# Altium footprint library diode.PCBLIB: 206 footprints (part 2 of 13)
Each footprint in its own frame and in the unit in brackets; x right, y up, seen from the top. Pads: shape width x height; smd on the part's side, far side on the other; paste and mask are expansions set on the pad; w line width, h text height; cw(c..) or ccw(c..) is an arc to the next point about the centre after c.
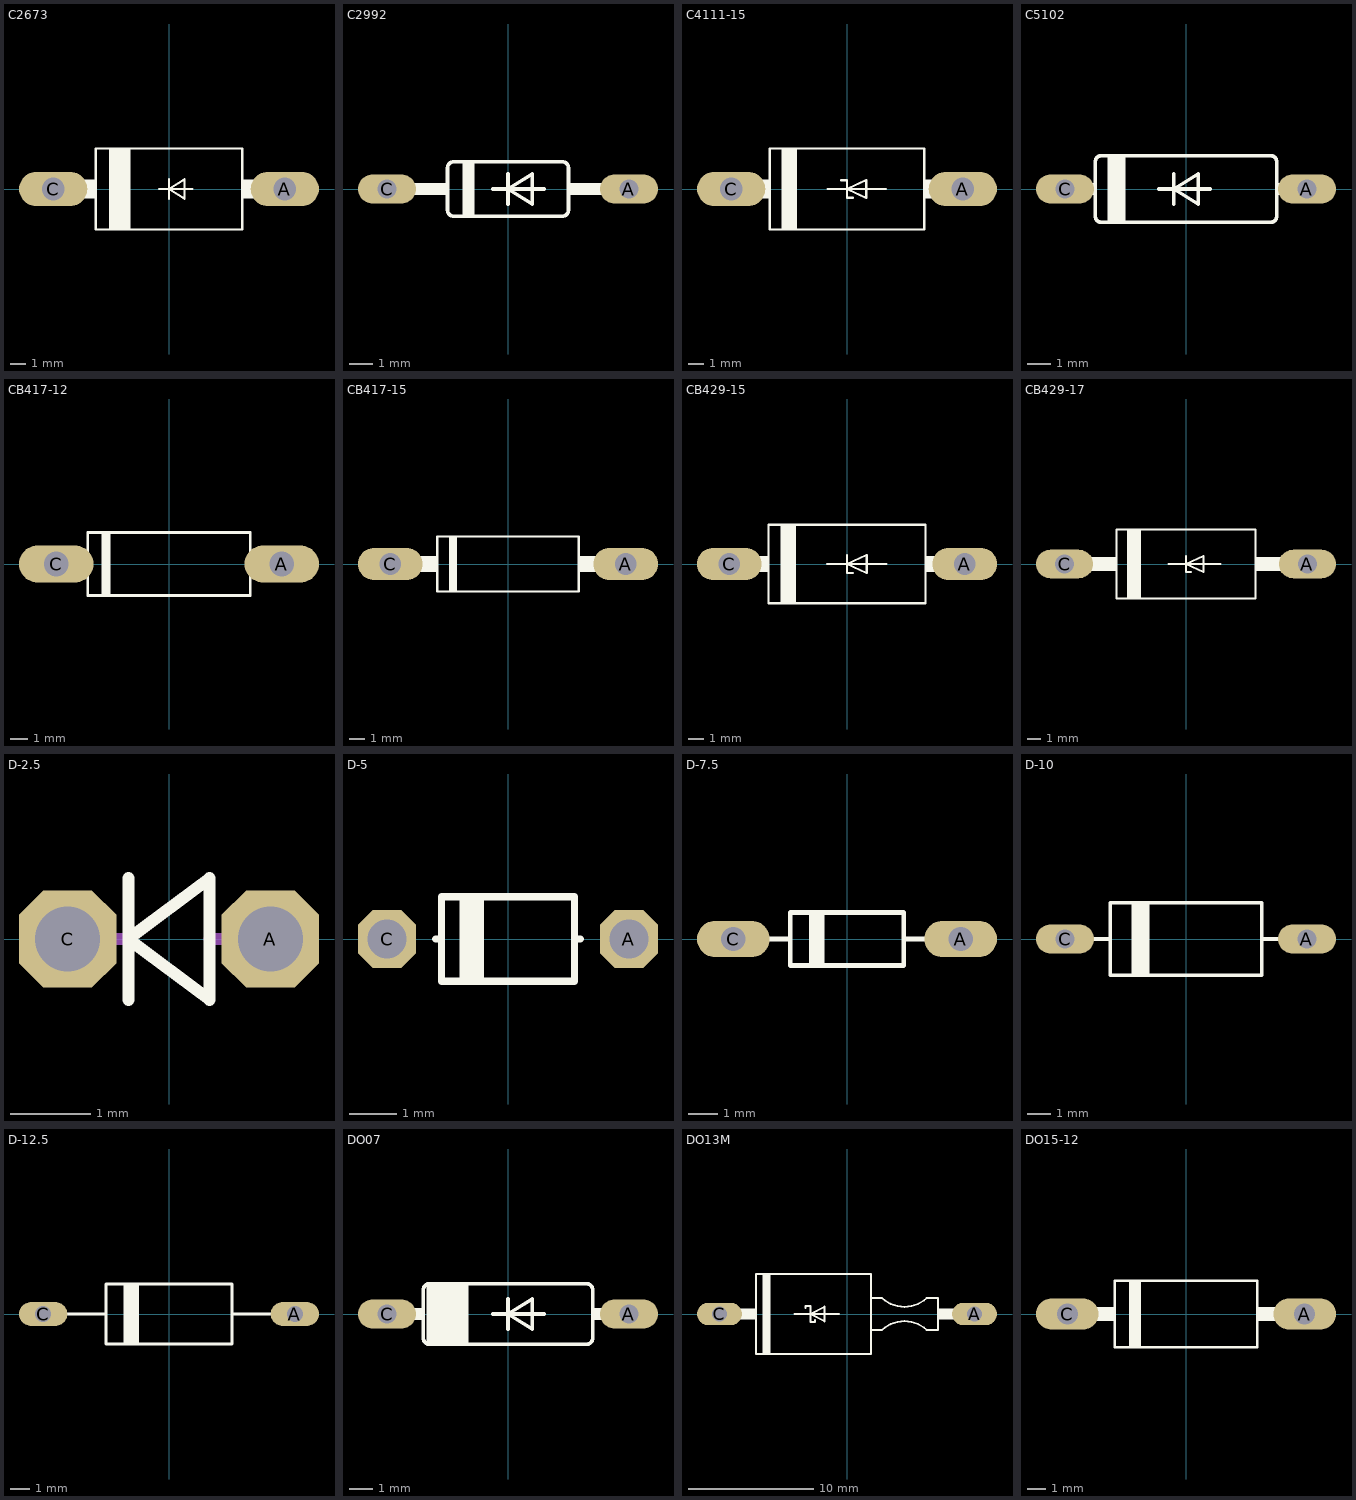
[diagram p1: the footprints below, top view; thin cyan lines are the x and y axes]

## C2673 [mil]
pads (2):
  oval 177x88.5 hole 59: A(300,0) C(-300,0)
Top Overlay:
  rectangle: -155,-105 -100,105
  rectangle: 190,-25 235,25
  rectangle: -235,-25 -190,25
  lines w6: -25,0 0,0 ; 0,-25 0,0 ; 0,25 0,0 ; 60,0 0,0 ; 0,0 40,-25 40,25 0,0 ; -190,-105 190,-105 190,105 -190,105 -190,-105
Mechanical 2:
  text ">NAME" at -185,120 h77.5
Mechanical 4:
  text ">VALUE" at -85,-85 h77.5
Mechanical 16:
  lines w50: -300,0 -240,0 ; 240,0 300,0

## C2992 [mil]
pads (2):
  oval 96x48 hole 32: A(200,0) C(-200,0)
Top Overlay:
  rectangle: 100,-10 165,10
  rectangle: -75,-45 -55,45
  rectangle: -165,-10 -100,10
  lines w6: -25,0 0,0 ; 0,-25 0,0 ; 0,25 0,0 ; 60,0 0,0 ; 0,0 40,-25 40,25 0,0 ; -100,-35 ccw(c-90,-35) -90,-45 90,-45 ccw(c90,-35) 100,-35 100,35 ccw(c90,35) 90,45 -90,45 ccw(c-90,35) -100,35 -100,-35
Mechanical 2:
  text ">NAME" at -95,60 h77.5
Mechanical 4:
  text ">VALUE" at -95,-105 h77.5
Mechanical 16:
  lines w20: -200,0 -165,0 ; 165,0 200,0

## C4111-15 [mil]
pads (2):
  oval 177x88.5 hole 59: A(300,0) C(-300,0)
Top Overlay:
  rectangle: -235,-25 -200,25
  rectangle: 200,-25 235,25
  rectangle: -170,-105 -130,105
  lines w6: -50,0 0,0 ; -15,23 0,23 0,0 ; 15,-23 0,-23 0,0 ; 100,0 0,0 ; 0,0 50,23 50,-23 0,0 ; -200,-105 -200,105 200,105 200,-105 -200,-105
Mechanical 2:
  text ">NAME" at -200,115 h77.5
Mechanical 4:
  text ">VALUE" at -100,-85 h77.5
Mechanical 16:
  lines w50: -300,0 -245,0 ; 245,0 300,0

## C5102 [mil]
pads (2):
  oval 96x48 hole 32: A(200,0) C(-200,0)
Top Overlay:
  rectangle: 150,-10 165,10
  rectangle: -165,-10 -150,10
  rectangle: -130,-55 -100,55
  lines w6: -45,0 -20,0 ; -20,-25 -20,0 ; -20,25 -20,0 ; 40,0 -20,0 ; -20,0 20,-25 20,25 -20,0 ; -150,-45 ccw(c-140,-45) -140,-55 140,-55 ccw(c140,-45) 150,-45 150,45 ccw(c140,45) 140,55 -140,55 ccw(c-140,45) -150,45 -150,-45
Mechanical 2:
  text ">NAME" at -145,70 h77.5
Mechanical 4:
  text ">VALUE" at -145,-115 h77.5
Mechanical 16:
  lines w20: -200,0 -165,0 ; 165,0 200,0

## CB417-12 [mil]
pads (2):
  oval 165x82.5 hole 55: A(250,0) C(-250,0)
Top Overlay:
  rectangle: -150,-70 -130,70
  rectangle: 180,-21 195,21
  rectangle: -195,-21 -180,21
  lines w6: -180,-70 -180,70 180,70 180,-70 -180,-70
Mechanical 2:
  text ">NAME" at -180,85 h77.5
Mechanical 4:
  text ">VALUE" at -110,-55 h77.5
Mechanical 16:
  lines w44: -250,0 -200,0 ; 200,0 250,0

## CB417-15 [mil]
pads (2):
  oval 165x82.5 hole 55: A(300,0) C(-300,0)
Top Overlay:
  rectangle: -150,-70 -130,70
  rectangle: 180,-21 245,21
  rectangle: -245,-21 -180,21
  lines w6: -180,-70 -180,70 180,70 180,-70 -180,-70
Mechanical 2:
  text ">NAME" at -180,85 h77.5
Mechanical 4:
  text ">VALUE" at -110,-55 h77.5
Mechanical 16:
  lines w44: -300,0 -250,0 ; 250,0 300,0

## CB429-15 [mil]
pads (2):
  oval 165x82.5 hole 55: A(300,0) C(-300,0)
Top Overlay:
  rectangle: -170,-100 -130,100
  rectangle: -235,-20 -200,20
  rectangle: 200,-20 235,20
  lines w6: -50,0 0,0 ; 0,23 0,0 ; 15,-23 0,-23 0,0 ; 100,0 0,0 ; 0,0 50,23 50,-23 0,0 ; -200,-100 -200,100 200,100 200,-100 -200,-100
Mechanical 2:
  text ">NAME" at -200,115 h77.5
Mechanical 4:
  text ">VALUE" at -100,-85 h77.5
Mechanical 16:
  lines w40: -300,0 -240,0 ; 240,0 300,0

## CB429-17 [mil]
pads (2):
  oval 165x82.5 hole 55: A(350,0) C(-350,0)
Top Overlay:
  rectangle: -170,-100 -130,100
  rectangle: 200,-20 285,20
  rectangle: -285,-20 -200,20
  lines w6: -50,0 0,0 ; 0,23 0,0 ; 15,-23 0,-23 0,0 ; 100,0 0,0 ; 0,0 50,23 50,-23 0,0 ; -200,-100 -200,100 200,100 200,-100 -200,-100
Mechanical 2:
  text ">NAME" at -200,115 h77.5
Mechanical 4:
  text ">VALUE" at -100,-85 h77.5
Mechanical 16:
  lines w40: -350,0 -290,0 ; 290,0 350,0

## D-2.5 [mil]
pads (2):
  oct 48x48 hole 32: A(50,0) C(-50,0)
Top Overlay:
  lines w6: -20,-30 -20,0 ; -20,30 -20,0 ; -20,0 20,30 20,-30 -20,0
Mechanical 2:
  text ">NAME" at -65,45 h77.5
Mechanical 4:
  text ">VALUE" at -65,-95 h77.5
Mechanical 16:
  lines w6: -50,0 -20,0 ; 20,0 50,0

## D-5 [mil]
pads (2):
  oct 48x48 hole 32: A(100,0) C(-100,0)
Top Overlay:
  rectangle: -40,-35 -20,35
  lines w6: -60,0 -55,0 ; 60,0 55,0 ; -55,0 -55,35 55,35 55,0 ; -55,0 -55,-35 55,-35 55,0
Mechanical 2:
  text ">NAME" at -75,50 h77.5
Mechanical 4:
  text ">VALUE" at -75,-100 h77.5

## D-7.5 [mil]
pads (2):
  oval 96x48 hole 32: A(150,0) C(-150,0)
Top Overlay:
  rectangle: -50,-35 -30,35
  lines w6: -110,0 -75,0 ; 110,0 75,0 ; -75,0 -75,35 75,35 75,0 ; -75,0 -75,-35 75,-35 75,0
Mechanical 2:
  text ">NAME" at -75,50 h77.5
Mechanical 4:
  text ">VALUE" at -75,-100 h77.5

## D-10 [mil]
pads (2):
  oval 96x48 hole 32: A(200,0) C(-200,0)
Top Overlay:
  rectangle: -90,-60 -60,60
  lines w6: -155,0 -125,0 ; 155,0 125,0 ; -125,0 -125,60 125,60 125,0 ; -125,0 -125,-60 125,-60 125,0
Mechanical 2:
  text ">NAME" at -125,75 h77.5
Mechanical 4:
  text ">VALUE" at -125,-125 h77.5

## D-12.5 [mil]
pads (2):
  oval 96x48 hole 32: A(250,0) C(-250,0)
Top Overlay:
  rectangle: -90,-60 -60,60
  rectangle: -90,-60 -60,60
  lines w6: -205,0 -125,0 ; 205,0 125,0 ; -125,0 -125,60 125,60 125,0 ; -125,0 -125,-60 125,-60 125,0
Mechanical 2:
  text ">NAME" at -125,75 h77.5
Mechanical 4:
  text ">VALUE" at -125,-125 h77.5

## DO07 [mil]
pads (2):
  oval 96x48 hole 32: A(200,0) C(-200,0)
Top Overlay:
  rectangle: -135,-50 -65,50
  rectangle: 140,-10 165,10
  rectangle: -165,-10 -140,10
  lines w6: -25,0 0,0 ; 0,-25 0,0 ; 0,25 0,0 ; 60,0 0,0 ; 0,0 40,-25 40,25 0,0 ; -140,-40 ccw(c-130,-40) -130,-50 130,-50 ccw(c130,-40) 140,-40 140,40 ccw(c130,40) 130,50 -130,50 ccw(c-130,40) -140,40 -140,-40
Mechanical 2:
  text ">NAME" at -135,60 h77.5
Mechanical 4:
  text ">VALUE" at -135,-115 h77.5
Mechanical 16:
  lines w20: -200,0 -165,0 ; 165,0 200,0

## DO13M [mil]
pads (2):
  oval 141x70.5 hole 47: A(400,0) C(-400,0)
Top Overlay:
  rectangle: 285,-17 343,17
  rectangle: -343,-17 -285,17
  rectangle: -265,-125 -240,125
  lines w6: -165,0 -115,0 ; -130,18 -130,25 -115,25 -115,0 ; -100,-18 -100,-25 -115,-25 -115,0 ; -25,0 -115,0 ; -115,0 -70,23 -70,-23 -115,0 ; 75,-50 75,-125 -285,-125 -285,125 75,125 75,50 ; 75,-50 75,50 ; 75,-50 110,-50 cw(c180,-125) 250,-50 285,-50 285,50 250,50 cw(c180,125) 110,50 75,50
Mechanical 2:
  text ">NAME" at -285,135 h77.5
Mechanical 4:
  text ">VALUE" at -215,-85 h77.5
Mechanical 16:
  lines w36: -400,0 -340,0 ; 340,0 400,0

## DO15-12 [mil]
pads (2):
  oval 132x66 hole 44: A(250,0) C(-250,0)
Top Overlay:
  rectangle: -120,-70 -95,70
  rectangle: -205,-15 -150,15
  rectangle: 150,-15 205,15
  lines w6: -150,-70 150,-70 150,70 -150,70 -150,-70
Mechanical 2:
  text ">NAME" at -145,85 h77.5
Mechanical 4:
  text ">VALUE" at -85,-55 h77.5
Mechanical 16:
  lines w30: -250,0 -210,0 ; 210,0 250,0